# Altium schematic symbol library 74HCxxx.SchLib: 2 symbols
Pins are listed as number, name and electrical type; pins without a type are passive.

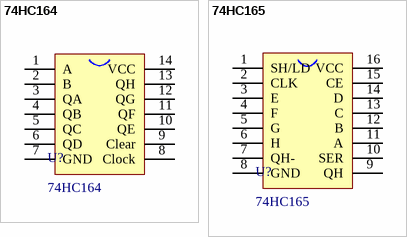
[diagram p0: symbols 74HC164 to 74HC165]

## 74HC164
designator U?
footprint DIP-14N
pins: 1 A, 2 B, 3 QA, 4 QB, 5 QC, 6 QD, 7 GND, 8 Clock, 9 Clear, 10 QE, 11 QF, 12 QG, 13 QH, 14 VCC

## 74HC165
designator U?
footprint DIP-16N
pins: 1 SH/LD, 2 CLK, 3 E, 4 F, 5 G, 6 H, 7 QH-, 8 GND, 9 QH, 10 SER, 11 A, 12 B, 13 C, 14 D, 15 CE, 16 VCC